# Altium footprint library MSASU32MSB5106KPNA01.PcbLib: 3 footprints
Each footprint in its own frame and in the unit in brackets; x right, y up, seen from the top. Pads: shape width x height; smd on the part's side, far side on the other; paste and mask are expansions set on the pad; w line width, h text height; cw(c..) or ccw(c..) is an arc to the next point about the centre after c.
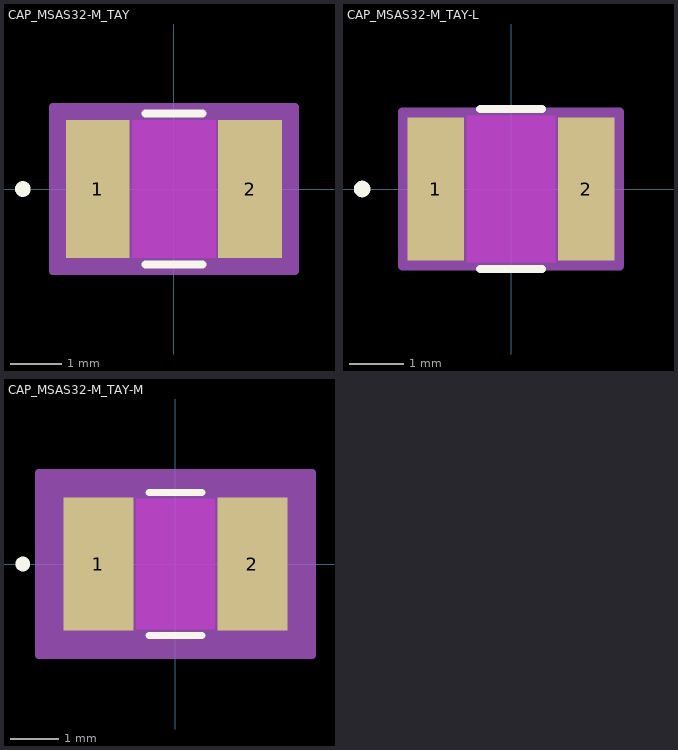
[diagram p0: the footprints below, top view; thin cyan lines are the x and y axes]

## CAP_MSAS32-M_TAY [mil]
pads (2):
  rect 49x106 smd paste+0 mask+0: 1(-58.5,0) 2(58.5,0)
Top Layer keep-out:
  region: -32,-51 -32,51 32,51 32,-51
Top Overlay:
  circle w6: c-116,0 r3
  lines w6: -21.89,-58 21.89,-58 ; -21.89,58 21.89,58
  text ".Designator" at -137.5,-25 h50
Keep-Out Layer:
  region: -32,-53 -32,53 32,53 32,-53
Mechanical 13:
  circle w1: c-53.5,0 r3
  lines w1: -69,-53 -69,53 ; -69,-53 -34,-53 -34,53 -69,53 ; -69,-53 69,-53 ; -69,-53 -69,53 ; -69,53 69,53 ; 69,-53 34,-53 34,53 69,53 ; 69,-53 69,53 ; 69,-53 69,53
  text ".Designator" at -137.5,-25 h50
Mechanical 15:
  region: 93,-63 -93,-63 -93,63 93,63
  lines w6: -93,-63 -93,63 93,63 93,-63 -93,-63
3D body "CAP_MSAS32-M_TAY.step": height 105.98, standoff 0, extent -69.02,-52.99 69.02,52.99

## CAP_MSAS32-M_TAY-L [mil]
pads (2):
  rect 41x104 smd paste+0 mask+0: 1(-54.5,0) 2(54.5,0)
Top Layer keep-out:
  region: -32,-51 -32,51 32,51 32,-51
Top Overlay:
  circle w6: c-108,0 r3
  lines w6: -22.35,-58 22.35,-58 ; -22.35,58 22.35,58
  text ".Designator" at -137.5,-25 h50
Keep-Out Layer:
  region: -32,-53 -32,53 32,53 32,-53
Mechanical 13:
  circle w1: c-49.5,0 r3
  lines w1: -69,-53 -69,53 ; -69,-53 -34,-53 -34,53 -69,53 ; -69,-53 69,-53 ; -69,-53 -69,53 ; -69,53 69,53 ; 69,-53 34,-53 34,53 69,53 ; 69,-53 69,53 ; 69,-53 69,53
  text ".Designator" at -137.5,-25 h50
Mechanical 15:
  region: 79,-56 -79,-56 -79,56 79,56
  lines w6: -79,-56 -79,56 79,56 79,-56 -79,-56
3D body "CAP_MSAS32-M_TAY.step": height 105.98, standoff 0, extent -69.02,-52.99 69.02,52.99

## CAP_MSAS32-M_TAY-M [mil]
pads (2):
  rect 57x108 smd paste+0 mask+0: 1(-62.5,0) 2(62.5,0)
Top Layer keep-out:
  region: -32,-51 -32,51 32,51 32,-51
Top Overlay:
  circle w6: c-124,0 r3
  lines w6: -21.53,-58 21.53,-58 ; -21.53,58 21.53,58
  text ".Designator" at -137.5,-25 h50
Keep-Out Layer:
  region: -32,-53 -32,53 32,53 32,-53
Mechanical 13:
  circle w1: c-57.5,0 r3
  lines w1: -69,-53 -69,53 ; -69,-53 -34,-53 -34,53 -69,53 ; -69,-53 69,-53 ; -69,-53 -69,53 ; -69,53 69,53 ; 69,-53 34,-53 34,53 69,53 ; 69,-53 69,53 ; 69,-53 69,53
  text ".Designator" at -137.5,-25 h50
Mechanical 15:
  region: 111,-74 -111,-74 -111,74 111,74
  lines w6: -111,-74 -111,74 111,74 111,-74 -111,-74
3D body "CAP_MSAS32-M_TAY.step": height 105.98, standoff 0, extent -69.02,-52.99 69.02,52.99